# EAGLE library part PCON-3? (library exmachina)
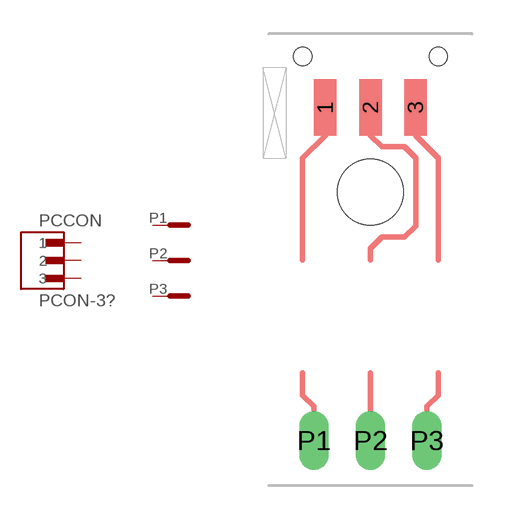
[diagram p0: symbol with the pads of PCON-3; footprint PCON-3]

Designator prefix PC; gates CON=BC-3 P1=P P2=P P3=P

## PCON-3  [PCON-3]
1  CON:1
2  CON:2
3  CON:3
P1  P1:P
P2  P2:P
P3  P3:P

## PCON-3-P  [PCON-3]
Pads as for PCON-3

## Footprint PCON-3 (pad centres in mm)
smd 1 x 2.5: 1 -2,-2.25; 2 0,-2.25; 3 2,-2.25
drill 0.8 long: P1 -2.5,-17; P2 0,-17; P3 2.5,-17
hole 0.8 at 3,0
hole 2.9 at 0,-6
hole 0.8 at -3,0